# Altium schematic symbol library Bat.SchLib: 2 symbols
Pins are listed as number, name and electrical type; pins without a type are passive.

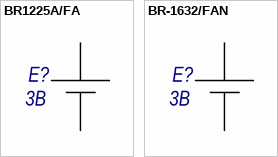
[diagram p0: symbols BR1225A/FA to BR-1632/FAN]

## BR1225A/FA
designator E?, comment value 3В  (hidden comment: Батарея литиевая BR1225A/FA фирма "Panasonic")
BR Coin-type Lithium Battery for high temperature 3V, 48mAh, 12.5mm, -40°C to +125°C; GOST: Батарея литиевая BR1225A/FA фирма "Panasonic"; PartNumber: BR1225A/FA
footprint BR1225A/FA (BATT LITH COIN 3V HITEMP W/LEGS 48 mAh, D=12.5, H=3.4mm max)
pins: +, -

## BR-1632/FAN
designator E?, comment value 3В  (hidden comment: Батарея литиевая BR-1632A/FAN фирма "Panasonic")
Csurface mount, coin, 16.0mm Lithium Poly-Carbon Monoflouride 3V Battery Non-Rechargeable; PartNumber: BR-1632/FAN; GOST: Батарея литиевая BR-1632A/FAN фирма "Panasonic"
footprint BR-1632A/FAN (Coin, 16.0mm Battery, H=3.5mm)
pins: +, -